# EAGLE library part NXP_SEMICONDUCTOR-ETHERNET_SWITCH-SJA1105 (library Module_ICs)
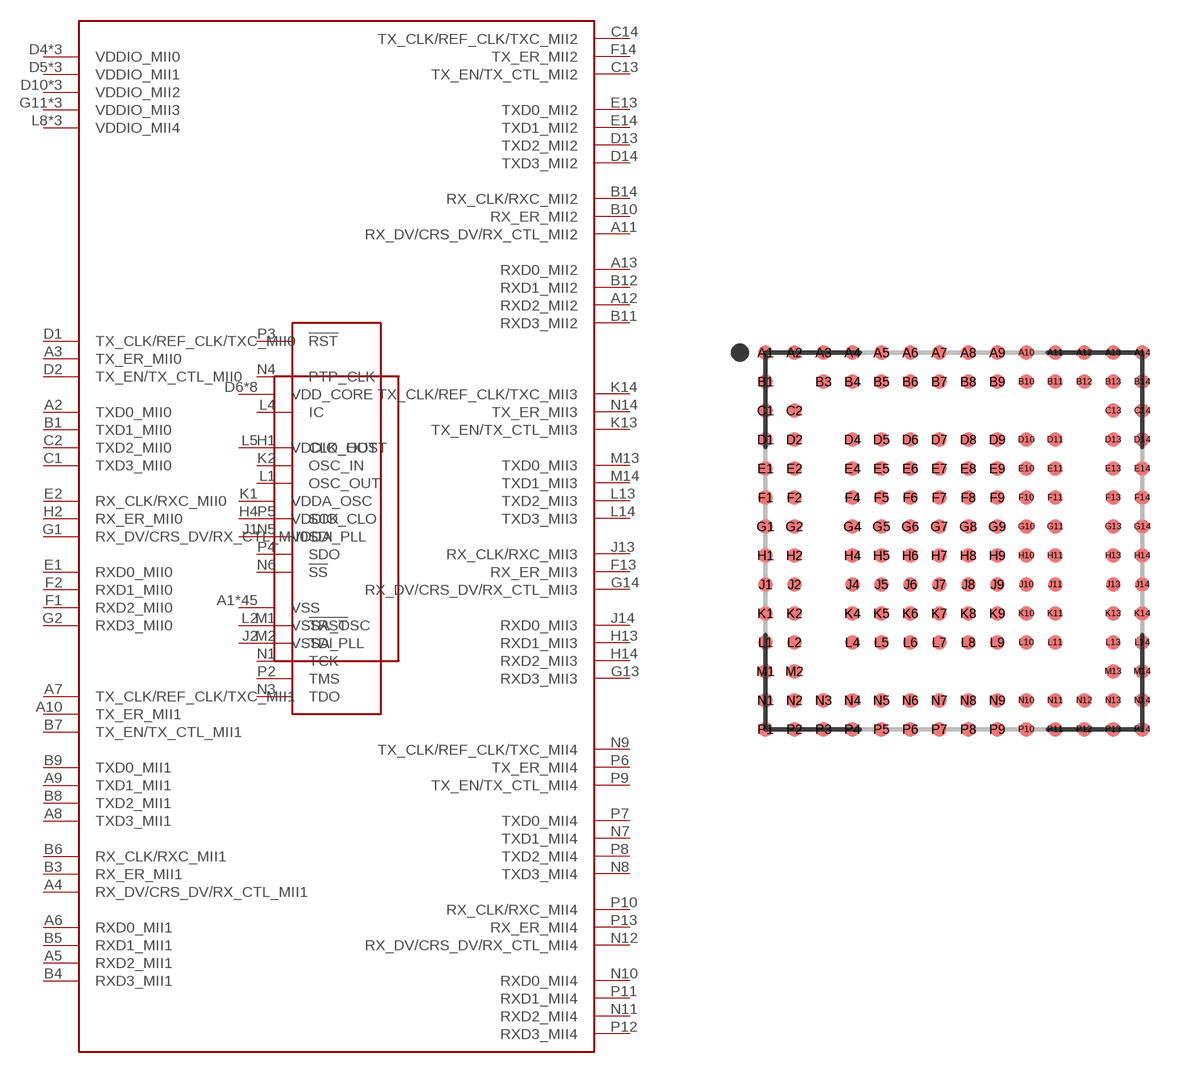
[diagram p53: symbol with the pads of NXP_SEMICONDUCTOR-ETHERNET_SWITCH-SJA1105; footprint NXP_SEMICONDUCTOR-ETHERNET_SWITCH-SJA1105]

Designator prefix U; gates G$1=NXP_SEMICONDUCTOR-ETHERNET_SWITCH-SJA1105--POWER G$2=NXP_SEMICONDUCTOR-ETHERNET_SWITCH-SJA1105--XMII_INTERFACE G$3=NXP_SEMICONDUCTOR-ETHERNET_SWITCH-SJA1105--XMII_INTERFACENXP_SEMICONDUCTOR-ETHERNET_SWITCH-SJA1105--OTHER

## NXP_SEMICONDUCTOR-ETHERNET_SWITCH-SJA1105  [NXP_SEMICONDUCTOR-ETHERNET_SWITCH-SJA1105]
A1  G$1:VSS
A2  G$2:TXD0_MII0
A3  G$2:TX_ER_MII0
A4  G$2:RX_DV/CRS_DV/RX_CTL_MII1
A5  G$2:RXD2_MII1
A6  G$2:RXD0_MII1
A7  G$2:TX_CLK/REF_CLK/TXC_MII1
A8  G$2:TXD3_MII1
A9  G$2:TXD1_MII1
A10  G$2:TX_ER_MII1
A11  G$2:RX_DV/CRS_DV/RX_CTL_MII2
A12  G$2:RXD2_MII2
A13  G$2:RXD0_MII2
A14  G$1:VSS
B1  G$2:TXD1_MII0
B3  G$2:RX_ER_MII1
B4  G$2:RXD3_MII1
B5  G$2:RXD1_MII1
B6  G$2:RX_CLK/RXC_MII1
B7  G$2:TX_EN/TX_CTL_MII1
B8  G$2:TXD2_MII1
B9  G$2:TXD0_MII1
B10  G$2:RX_ER_MII2
B11  G$2:RXD3_MII2
B12  G$2:RXD1_MII2
B13  G$1:VSS
B14  G$2:RX_CLK/RXC_MII2
C1  G$2:TXD3_MII0
C2  G$2:TXD2_MII0
C13  G$2:TX_EN/TX_CTL_MII2
C14  G$2:TX_CLK/REF_CLK/TXC_MII2
D1  G$2:TX_CLK/REF_CLK/TXC_MII0
D2  G$2:TX_EN/TX_CTL_MII0
D4  G$2:VDDIO_MII0
D5  G$2:VDDIO_MII1
D6  G$1:VDD_CORE
D7  G$2:VDDIO_MII1
D8  G$2:VDDIO_MII1
D9  G$1:VDD_CORE
D10  G$2:VDDIO_MII2
D11  G$2:VDDIO_MII2
D13  G$2:TXD2_MII2
D14  G$2:TXD3_MII2
E1  G$2:RXD0_MII0
E2  G$2:RX_CLK/RXC_MII0
E4  G$2:VDDIO_MII0
E5  G$1:VSS
E6  G$1:VSS
E7  G$1:VSS
E8  G$1:VSS
E9  G$1:VSS
E10  G$1:VSS
E11  G$2:VDDIO_MII2
E13  G$2:TXD0_MII2
E14  G$2:TXD1_MII2
F1  G$2:RXD2_MII0
F2  G$2:RXD1_MII0
F4  G$1:VDD_CORE
F5  G$1:VSS
F6  G$1:VSS
F7  G$1:VSS
F8  G$1:VSS
F9  G$1:VSS
F10  G$1:VSS
F11  G$1:VDD_CORE
F13  G$2:RX_ER_MII3
F14  G$2:TX_ER_MII2
G1  G$2:RX_DV/CRS_DV/RX_CTL_MII0
G2  G$2:RXD3_MII0
G4  G$2:VDDIO_MII0
G5  G$1:VSS
G6  G$1:VSS
G7  G$1:VSS
G8  G$1:VSS
G9  G$1:VSS
G10  G$1:VSS
G11  G$2:VDDIO_MII3
G13  G$2:RXD3_MII3
G14  G$2:RX_DV/CRS_DV/RX_CTL_MII3
H1  G$3:CLK_OUT
H2  G$2:RX_ER_MII0
H4  G$1:VDDIO_CLO
H5  G$1:VSS
H6  G$1:VSS
H7  G$1:VSS
H8  G$1:VSS
H9  G$1:VSS
H10  G$1:VSS
H11  G$2:VDDIO_MII3
H13  G$2:RXD1_MII3
H14  G$2:RXD2_MII3
J1  G$1:VDDA_PLL
J2  G$1:VSSA_PLL
J4  G$1:VDD_CORE
J5  G$1:VSS
J6  G$1:VSS
J7  G$1:VSS
J8  G$1:VSS
J9  G$1:VSS
J10  G$1:VSS
J11  G$1:VDD_CORE
J13  G$2:RX_CLK/RXC_MII3
J14  G$2:RXD0_MII3
K1  G$1:VDDA_OSC
K2  G$3:OSC_IN
K4  G$1:VSS
K5  G$1:VSS
K6  G$1:VSS
K7  G$1:VSS
K8  G$1:VSS
K9  G$1:VSS
K10  G$1:VSS
K11  G$2:VDDIO_MII3
K13  G$2:TX_EN/TX_CTL_MII3
K14  G$2:TX_CLK/REF_CLK/TXC_MII3
L1  G$3:OSC_OUT
L2  G$1:VSSA_OSC
L4  G$3:IC
L5  G$1:VDDIO_HOST
L6  G$1:VDD_CORE
L7  G$1:VSS
L8  G$2:VDDIO_MII4
L9  G$1:VDD_CORE
L10  G$2:VDDIO_MII4
L11  G$2:VDDIO_MII4
L13  G$2:TXD2_MII3
L14  G$2:TXD3_MII3
M1  G$3:!TRST
M2  G$3:TDI
M13  G$2:TXD0_MII3
M14  G$2:TXD1_MII3
N1  G$3:TCK
N2  G$1:VSS
N3  G$3:TDO
N4  G$3:PTP_CLK
N5  G$3:SDI
N6  G$3:!SS
N7  G$2:TXD1_MII4
N8  G$2:TXD3_MII4
N9  G$2:TX_CLK/REF_CLK/TXC_MII4
N10  G$2:RXD0_MII4
N11  G$2:RXD2_MII4
N12  G$2:RX_DV/CRS_DV/RX_CTL_MII4
N13  G$1:VSS
N14  G$2:TX_ER_MII3
P1  G$1:VSS
P2  G$3:TMS
P3  G$3:!RST
P4  G$3:SDO
P5  G$3:SCK
P6  G$2:TX_ER_MII4
P7  G$2:TXD0_MII4
P8  G$2:TXD2_MII4
P9  G$2:TX_EN/TX_CTL_MII4
P10  G$2:RX_CLK/RXC_MII4
P11  G$2:RXD1_MII4
P12  G$2:RXD3_MII4
P13  G$2:RX_ER_MII4
P14  G$1:VSS

## Footprint NXP_SEMICONDUCTOR-ETHERNET_SWITCH-SJA1105 (pad centres in mm)
196-BGA, collapsing, 0.80 mm pitch, 10.40 X 10.40 X 0.10 mm body 196-pin collapsing BGA package with 0.80 mm col pitch and 0.80 mm row pitch with body size 10.40 X 10.40 X 0.10 mm
smd 0.4 x 0.4: A1 -5.2,5.2; A2 -4.4,5.2; A3 -3.6,5.2; A4 -2.8,5.2; A5 -2,5.2; A6 -1.2,5.2; A7 -0.4,5.2; A8 0.4,5.2; A9 1.2,5.2; A10 2,5.2; A11 2.8,5.2; A12 3.6,5.2; A13 4.4,5.2; A14 5.2,5.2; B1 -5.2,4.4; B3 -3.6,4.4; B4 -2.8,4.4; B5 -2,4.4; B6 -1.2,4.4; B7 -0.4,4.4; B8 0.4,4.4; B9 1.2,4.4; B10 2,4.4; B11 2.8,4.4; B12 3.6,4.4; B13 4.4,4.4; B14 5.2,4.4; C1 -5.2,3.6; C2 -4.4,3.6; C13 4.4,3.6; C14 5.2,3.6; D1 -5.2,2.8; D2 -4.4,2.8; D4 -2.8,2.8; D5 -2,2.8; D6 -1.2,2.8; D7 -0.4,2.8; D8 0.4,2.8; D9 1.2,2.8; D10 2,2.8; D11 2.8,2.8; D13 4.4,2.8; D14 5.2,2.8; E1 -5.2,2; E2 -4.4,2; E4 -2.8,2; E5 -2,2; E6 -1.2,2; E7 -0.4,2; E8 0.4,2; E9 1.2,2; E10 2,2; E11 2.8,2; E13 4.4,2; E14 5.2,2; F1 -5.2,1.2; F2 -4.4,1.2; F4 -2.8,1.2; F5 -2,1.2; F6 -1.2,1.2; F7 -0.4,1.2; F8 0.4,1.2; F9 1.2,1.2; F10 2,1.2; F11 2.8,1.2; F13 4.4,1.2; F14 5.2,1.2; G1 -5.2,0.4; G2 -4.4,0.4; G4 -2.8,0.4; G5 -2,0.4; G6 -1.2,0.4; G7 -0.4,0.4; G8 0.4,0.4; G9 1.2,0.4; G10 2,0.4; G11 2.8,0.4; G13 4.4,0.4; G14 5.2,0.4; H1 -5.2,-0.4; H2 -4.4,-0.4; H4 -2.8,-0.4; H5 -2,-0.4; H6 -1.2,-0.4; H7 -0.4,-0.4; H8 0.4,-0.4; H9 1.2,-0.4; H10 2,-0.4; H11 2.8,-0.4; H13 4.4,-0.4; H14 5.2,-0.4; J1 -5.2,-1.2; J2 -4.4,-1.2; J4 -2.8,-1.2; J5 -2,-1.2; J6 -1.2,-1.2; J7 -0.4,-1.2; J8 0.4,-1.2; J9 1.2,-1.2; J10 2,-1.2; J11 2.8,-1.2; J13 4.4,-1.2; J14 5.2,-1.2; K1 -5.2,-2; K2 -4.4,-2; K4 -2.8,-2; K5 -2,-2; K6 -1.2,-2; K7 -0.4,-2; K8 0.4,-2; K9 1.2,-2; K10 2,-2; K11 2.8,-2; K13 4.4,-2; K14 5.2,-2; L1 -5.2,-2.8; L2 -4.4,-2.8; L4 -2.8,-2.8; L5 -2,-2.8; L6 -1.2,-2.8; L7 -0.4,-2.8; L8 0.4,-2.8; L9 1.2,-2.8; L10 2,-2.8; L11 2.8,-2.8; L13 4.4,-2.8; L14 5.2,-2.8; M1 -5.2,-3.6; M2 -4.4,-3.6; M13 4.4,-3.6; M14 5.2,-3.6; N1 -5.2,-4.4; N2 -4.4,-4.4; N3 -3.6,-4.4; N4 -2.8,-4.4; N5 -2,-4.4; N6 -1.2,-4.4; N7 -0.4,-4.4; N8 0.4,-4.4; N9 1.2,-4.4; N10 2,-4.4; N11 2.8,-4.4; N12 3.6,-4.4; N13 4.4,-4.4; N14 5.2,-4.4; P1 -5.2,-5.2; P2 -4.4,-5.2; P3 -3.6,-5.2; P4 -2.8,-5.2; P5 -2,-5.2; P6 -1.2,-5.2; P7 -0.4,-5.2; P8 0.4,-5.2; P9 1.2,-5.2; P10 2,-5.2; P11 2.8,-5.2; P12 3.6,-5.2; P13 4.4,-5.2; P14 5.2,-5.2